# Altium footprint library 2021-07-02_18-33-50.PcbLib: 3 footprints
Each footprint in its own frame and in the unit in brackets; x right, y up, seen from the top. Pads: shape width x height; smd on the part's side, far side on the other; paste and mask are expansions set on the pad; w line width, h text height; cw(c..) or ccw(c..) is an arc to the next point about the centre after c.
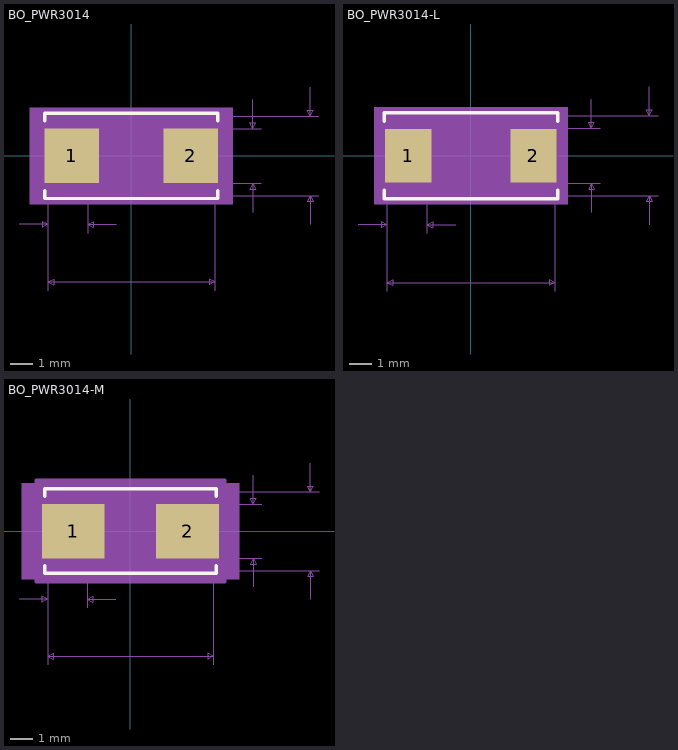
[diagram p0: the footprints below, top view; thin cyan lines are the x and y axes]

## BO_PWR3014 [mil]
pads (2):
  rect 95x95 smd paste+0 mask+0: 1(-103.5,0) 2(103.5,0)
Top Overlay:
  lines w6: -150,-60.6 -150,-74 150,-74 150,-60.6 ; -150,60.6 -150,74 150,74 150,60.6
Mechanical 5:
  region: 176,-84 -176,-84 -176,84 176,84
Mechanical 7:
  lines w1: -195,-119 -145,-119 ; -145,-234 -145,0 -145,-134 ; -76,-134 -76,0 ; -26,-119 -76,-119 ; 145,-234 145,0 ; 161,-69 326,-69 ; 161,-47.5 226,-47.5 ; 161,47.5 226,47.5 ; 161,69 326,69 ; 211,-97.5 211,-47.5 ; 211,97.5 211,47.5 ; 311,-119 311,-69 ; 311,119 311,69 ; -145,-219 145,-219 ; -145,-219 -135,-214 -135,-224 -145,-219 ; -145,-119 -155,-114 -155,-124 -145,-119 ; -76,-119 -66,-114 -66,-124 -76,-119 ; 145,-219 135,-214 135,-224 145,-219 ; 211,-47.5 206,-57.5 216,-57.5 211,-47.5 ; 211,47.5 206,57.5 216,57.5 211,47.5 ; 311,-69 306,-79 316,-79 311,-69 ; 311,69 306,79 316,79 311,69
  text "Default Padstyle: RX95Y95D0T" at -350,-344 h50
  text "Alt 1 Padstyle: OX60Y90D30P" at -337.5,-419 h50
  text "Alt 2 Padstyle: OX90Y60D30P" at -337.5,-494 h50
  text "0.095in/2.413mm" at 231,-12.5 h25
  text "0.138in/3.505mm" at 331,-12.5 h25
  text "0.29in/7.366mm" at -87.5,-264 h25
  text "0.069in/1.753mm" at -204.25,-164 h25
Mechanical 13:
  lines w1: -145,-69 145,-69 145,69 -145,69 -145,-69
Mechanical 15:
  region: -155,-57.5 -161,-57.5 -161,57.5 -155,57.5 -155,79 155,79 155,57.5 161,57.5 161,-57.5 155,-57.5 155,-79 -155,-79
  lines w6: -161,-57.5 -161,57.5 -155,57.5 -155,79 155,79 155,57.5 161,57.5 161,-57.5 155,-57.5 155,-79 -155,-79 -155,-57.5 -161,-57.5
3D body: height 10, standoff 0, extent 0,0 10,10

## BO_PWR3014-L [mil]
pads (2):
  rect 80x93 smd paste+0 mask+0: 1(-108,0) 2(108,0)
Top Overlay:
  lines w6: -150,-59.45 -150,-74 150,-74 150,-59.45 ; -150,59.45 -150,74 150,74 150,59.45
Mechanical 5:
  region: 167,-84 -167,-84 -167,84 167,84
Mechanical 7:
  lines w1: -195,-119 -145,-119 ; -145,-234 -145,0 -145,-134 ; -76,-134 -76,0 ; -26,-119 -76,-119 ; 145,-234 145,0 ; 158,-69 323,-69 ; 158,-47.5 223,-47.5 ; 158,47.5 223,47.5 ; 158,69 323,69 ; 208,-97.5 208,-47.5 ; 208,97.5 208,47.5 ; 308,-119 308,-69 ; 308,119 308,69 ; -145,-219 145,-219 ; -145,-219 -135,-214 -135,-224 -145,-219 ; -145,-119 -155,-114 -155,-124 -145,-119 ; -76,-119 -66,-114 -66,-124 -76,-119 ; 145,-219 135,-214 135,-224 145,-219 ; 208,-47.5 203,-57.5 213,-57.5 208,-47.5 ; 208,47.5 203,57.5 213,57.5 208,47.5 ; 308,-69 303,-79 313,-79 308,-69 ; 308,69 303,79 313,79 308,69
  text "Default Padstyle: RX80Y93D0T" at -350,-344 h50
  text "Alt 1 Padstyle: OX60Y90D30P" at -337.5,-419 h50
  text "Alt 2 Padstyle: OX90Y60D30P" at -337.5,-494 h50
  text "0.095in/2.413mm" at 228,-12.5 h25
  text "0.138in/3.505mm" at 328,-12.5 h25
  text "0.29in/7.366mm" at -87.5,-264 h25
  text "0.069in/1.753mm" at -204.25,-164 h25
Mechanical 13:
  lines w1: -145,-69 145,-69 145,69 -145,69 -145,-69
Mechanical 15:
  region: -149,-51.5 -152,-51.5 -152,51.5 -149,51.5 -149,73 149,73 149,51.5 152,51.5 152,-51.5 149,-51.5 149,-73 -149,-73
  lines w6: -152,-51.5 -152,51.5 -149,51.5 -149,73 149,73 149,51.5 152,51.5 152,-51.5 149,-51.5 149,-73 -149,-73 -149,-51.5 -152,-51.5
3D body: height 10, standoff 0, extent 0,0 10,10

## BO_PWR3014-M [mil]
pads (2):
  rect 110x95 smd paste+0 mask+0: 1(-100,0) 2(100,0)
Top Overlay:
  lines w6: -150,-60.6 -150,-74 150,-74 150,-60.6 ; -150,60.6 -150,74 150,74 150,60.6
Mechanical 5:
  region: 190,-84 -190,-84 -190,84 190,84
Mechanical 7:
  lines w1: -195,-119 -145,-119 ; -145,-234 -145,0 -145,-134 ; -76,-134 -76,0 ; -26,-119 -76,-119 ; 145,-234 145,0 ; 165,-69 330,-69 ; 165,-47.5 230,-47.5 ; 165,47.5 230,47.5 ; 165,69 330,69 ; 215,-97.5 215,-47.5 ; 215,97.5 215,47.5 ; 315,-119 315,-69 ; 315,119 315,69 ; -145,-219 145,-219 ; -145,-219 -135,-214 -135,-224 -145,-219 ; -145,-119 -155,-114 -155,-124 -145,-119 ; -76,-119 -66,-114 -66,-124 -76,-119 ; 145,-219 135,-214 135,-224 145,-219 ; 215,-47.5 210,-57.5 220,-57.5 215,-47.5 ; 215,47.5 210,57.5 220,57.5 215,47.5 ; 315,-69 310,-79 320,-79 315,-69 ; 315,69 310,79 320,79 315,69
  text "Default Padstyle: RX110Y95D0T" at -362.5,-344 h50
  text "Alt 1 Padstyle: OX60Y90D30P" at -337.5,-419 h50
  text "Alt 2 Padstyle: OX90Y60D30P" at -337.5,-494 h50
  text "0.095in/2.413mm" at 235,-12.5 h25
  text "0.138in/3.505mm" at 335,-12.5 h25
  text "0.29in/7.366mm" at -87.5,-264 h25
  text "0.069in/1.753mm" at -204.25,-164 h25
Mechanical 13:
  lines w1: -145,-69 145,-69 145,69 -145,69 -145,-69
Mechanical 15:
  region: -165,-67.5 -175,-67.5 -175,67.5 -165,67.5 -165,89 165,89 165,67.5 175,67.5 175,-67.5 165,-67.5 165,-89 -165,-89
  lines w6: -175,-67.5 -175,67.5 -165,67.5 -165,89 165,89 165,67.5 175,67.5 175,-67.5 165,-67.5 165,-89 -165,-89 -165,-67.5 -175,-67.5
3D body: height 10, standoff 0, extent 0,0 10,10